# Altium footprint library SOP16P64_490X599X175L84X25N.PcbLib: 1 footprints
Each footprint in its own frame and in the unit in brackets; x right, y up, seen from the top. Pads: shape width x height; smd on the part's side, far side on the other; paste and mask are expansions set on the pad; w line width, h text height; cw(c..) or ccw(c..) is an arc to the next point about the centre after c.
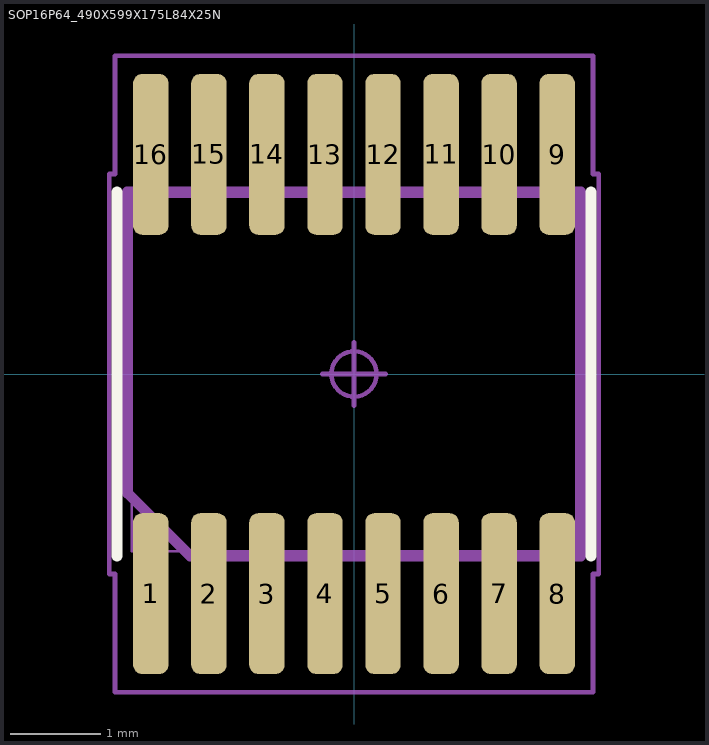
[diagram p0: the footprint, top view; thin cyan lines are the x and y axes]

## SOP16P64_490X599X175L84X25N [mm] "Small Outline Pkg (SOP), 0.64 mm pitch; 16 pin, 4.90 mm L X 3.91 mm W X 1.75 mm H body"
height 1.75
pads (16):
  rrect50% 0.39x1.773 smd: 1(-2.24,-2.421) 2(-1.6,-2.421) 3(-0.96,-2.421) 4(-0.32,-2.421) 5(0.32,-2.421) 6(0.96,-2.421) 7(1.6,-2.421) 8(2.24,-2.421) 9(2.24,2.421) 10(1.6,2.421) 11(0.96,2.421) 12(0.32,2.421) 13(-0.32,2.421) 14(-0.96,2.421) 15(-1.6,2.421) 16(-2.24,2.421)
Top Overlay:
  lines w0.12: -2.615,-2.005 -2.615,2.005 ; 2.615,-2.005 2.615,2.005
Mechanical 3:
  lines w0.12: -2.5,-1.31 -2.5,2.005 2.5,2.005 2.5,-2.005 -1.805,-2.005 -2.5,-1.31
Mechanical 5:
  lines w0.025: -2.365,-2.997 -2.365,-2.157 -2.115,-2.157 -2.115,-2.997 -2.365,-2.997 ; -2.365,2.157 -2.365,2.997 -2.115,2.997 -2.115,2.157 -2.365,2.157 ; -1.725,-2.997 -1.725,-2.157 -1.475,-2.157 -1.475,-2.997 -1.725,-2.997 ; -1.725,2.157 -1.725,2.997 -1.475,2.997 -1.475,2.157 -1.725,2.157 ; -1.085,-2.997 -1.085,-2.157 -0.835,-2.157 -0.835,-2.997 -1.085,-2.997 ; -1.085,2.157 -1.085,2.997 -0.835,2.997 -0.835,2.157 -1.085,2.157 ; -0.445,-2.997 -0.445,-2.157 -0.195,-2.157 -0.195,-2.997 -0.445,-2.997 ; -0.445,2.157 -0.445,2.997 -0.195,2.997 -0.195,2.157 -0.445,2.157 ; 0.195,-2.997 0.195,-2.157 0.445,-2.157 0.445,-2.997 0.195,-2.997 ; 0.195,2.157 0.195,2.997 0.445,2.997 0.445,2.157 0.195,2.157 ; 0.835,-2.997 0.835,-2.157 1.085,-2.157 1.085,-2.997 0.835,-2.997 ; 0.835,2.157 0.835,2.997 1.085,2.997 1.085,2.157 0.835,2.157 ; 1.475,-2.997 1.475,-2.157 1.725,-2.157 1.725,-2.997 1.475,-2.997 ; 1.475,2.157 1.475,2.997 1.725,2.997 1.725,2.157 1.475,2.157 ; 2.115,-2.997 2.115,-2.157 2.365,-2.157 2.365,-2.997 2.115,-2.997 ; 2.115,2.157 2.115,2.997 2.365,2.997 2.365,2.157 2.115,2.157
Mechanical 7:
  circle w0.05: c0,0 r0.25
  lines w0.025: -2.45,-1.955 2.45,-1.955 2.45,1.955 -2.45,1.955 -2.45,-1.955
  lines w0.05: -0.35,0 0.35,0 ; 0,-0.35 0,0.35 ; -2.7,-2.205 -2.635,-2.205 -2.635,-3.508 2.635,-3.508 2.635,-2.205 2.7,-2.205 2.7,2.205 2.635,2.205 2.635,3.508 -2.635,3.508 -2.635,2.205 -2.7,2.205 -2.7,-2.205
Mechanical 9:
  text ".Designator" at -3.429,4.191 h0.76
3D body "SOP16P64_490X599X175L84X25.STEP": height 1.75, standoff 0, extent -2.45,-2.997 2.45,2.997